# Altium footprint library PcbLib.PcbLib: 11 footprints
Each footprint in its own frame and in the unit in brackets; x right, y up, seen from the top. Pads: shape width x height; smd on the part's side, far side on the other; paste and mask are expansions set on the pad; w line width, h text height; cw(c..) or ccw(c..) is an arc to the next point about the centre after c.
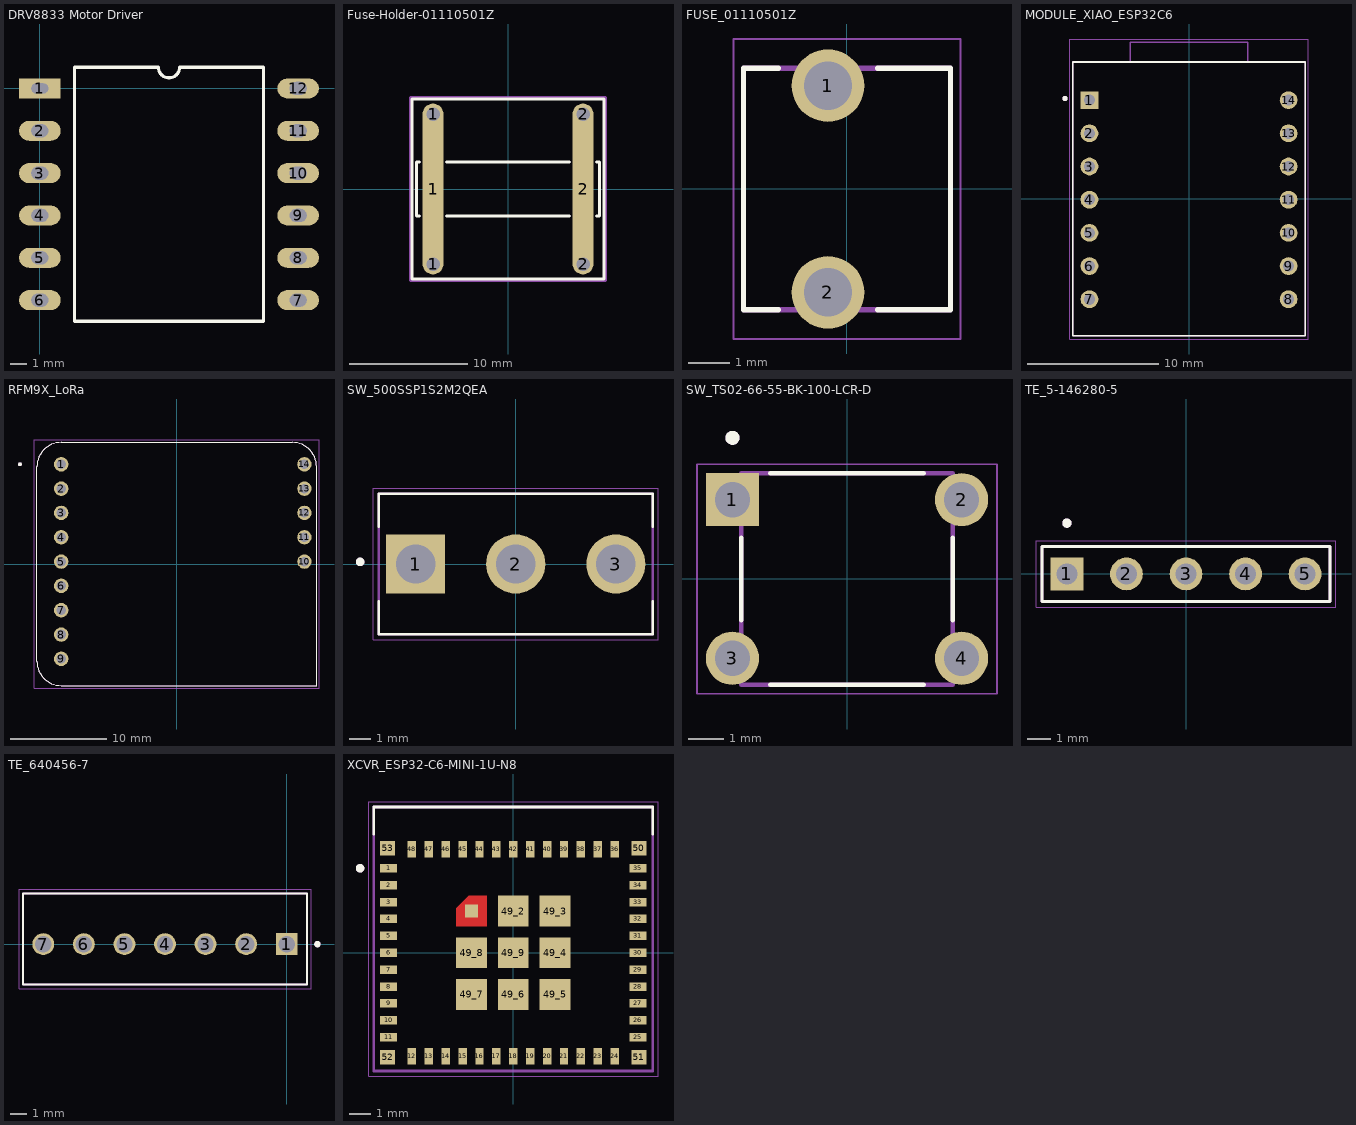
[diagram p0: the footprints below, top view; thin cyan lines are the x and y axes]

## DRV8833 Motor Driver [mm]
pads (12):
  rect 2.5x1.2 hole 0.6 slot 1.016 at 0 deg: 1(0,0)
  oval 2.5x1.2 hole 0.778 slot 1.016 at 0 deg: 2(0,-2.54) 3(0,-5.08) 4(0,-7.62) 5(0,-10.16) 6(0,-12.7) 7(15.5,-12.7) 8(15.5,-10.16) 9(15.5,-7.62) 10(15.5,-5.08) 11(15.5,-2.54) 12(15.5,0)
Top Overlay:
  lines w0.2: 2.085,-13.97 13.415,-13.97 13.415,1.27 8.385,1.27 cw(c7.75,1.27) 7.115,1.27 2.085,1.27 2.085,-13.97

## Fuse-Holder-01110501Z [mil]
pads (6):
  round 70 hole 45: 1(-250,-250) 1(-250,250) 2(250,-250) 2(250,250)
  rect 70x500 smd: 1(-250,0) 2(250,0)
Top Overlay:
  lines w10: -295,-90 -305,-90 -305,90 -295,90 ; -205,-90 205,-90 ; -205,90 205,90 ; 295,-90 305,-90 305,90 295,90 ; -320,-300 -320,300 320,300 320,-300 -320,-300
Mechanical 4:
  lines w10: -325,-305 -325,305 325,305 325,-305 -325,-305
Mechanical 6:
  text "'.Designator'" at -56.68,404.29 h39.37

## FUSE_01110501Z [mm]
height 7
pads (2):
  round 1.755 hole 1.17 mask+0.102: 1(-0.46,2.5) 2(-0.46,-2.5)
Top Overlay:
  lines w0.127: -1.657,-2.921 -2.5,-2.921 -2.5,2.921 -1.657,2.921 ; 0.737,-2.921 2.5,-2.921 2.5,2.921 0.737,2.921
Mechanical 13:
  lines w0.127: -2.5,-2.921 2.5,-2.921 2.5,2.921 -2.5,2.921 -2.5,-2.921
Mechanical 15:
  lines w0.05: -2.75,-3.628 2.75,-3.628 2.75,3.628 -2.75,3.628 -2.75,-3.628

## MODULE_XIAO_ESP32C6 [mm]
pads (14):
  rect 1.358x1.358 / inner round 1.358 / far side rect 1.358x1.358 hole 0.85 mask+0.102: 1(-7.62,7.556)
  round 1.358 hole 0.85 mask+0.102: 2(-7.62,5.016) 3(-7.62,2.476) 4(-7.62,-0.064) 5(-7.62,-2.603) 6(-7.62,-5.143) 7(-7.62,-7.683) 8(7.62,-7.683) 9(7.62,-5.143) 10(7.62,-2.603) 11(7.62,-0.064) 12(7.62,2.476) 13(7.62,5.016) 14(7.62,7.556)
Top Overlay:
  circle w0.2: c-9.5,7.683 r0.1
  lines w0.127: -8.89,-10.477 8.89,-10.477 8.89,10.477 -8.89,10.477 -8.89,-10.477
Mechanical 13:
  circle w0.2: c-9.5,7.683 r0.1
  lines w0.127: -4.5,10.477 -4.5,11.987 4.5,11.987 4.5,10.477 ; -4.5,10.477 4.5,10.477 ; -4.5,10.477 -8.89,10.477 -8.89,-10.477 8.89,-10.477 8.89,10.477 4.5,10.477
Mechanical 15:
  lines w0.05: -9.14,-10.727 9.14,-10.727 9.14,12.237 -9.14,12.237 -9.14,-10.727
3D body "step_temp.STEP": height 4.21, standoff 0, extent -8.89,-10.477 8.89,11.986

## RFM9X_LoRa [mm] "RFM9X_LoRa"
pads (14):
  round 1.508 hole 1: 1(-12.065,10.414) 2(-12.065,7.874) 3(-12.065,5.334) 4(-12.065,2.794) 5(-12.065,0.254) 6(-12.065,-2.286) 7(-12.065,-4.826) 8(-12.065,-7.366) 9(-12.065,-9.906) 10(13.335,0.254) 11(13.335,2.794) 12(13.335,5.334) 13(13.335,7.874) 14(13.335,10.414)
Top Overlay:
  circle w0.2: c-16.373,10.414 r0.1
  lines w0.127: -14.605,-10.16 ccw(c-12.065,-10.16) -12.065,-12.7 14.605,-12.7 14.605,10.16 ccw(c12.065,10.16) 12.065,12.7 -12.065,12.7 ccw(c-12.065,10.16) -14.605,10.16 -14.605,-10.16
Mechanical 13:
  circle w0.2: c-16.373,10.414 r0.1
  lines w0.127: -14.605,-10.16 ccw(c-12.065,-10.16) -12.065,-12.7 14.605,-12.7 14.605,10.16 ccw(c12.065,10.16) 12.065,12.7 -12.065,12.7 ccw(c-12.065,10.16) -14.605,10.16 -14.605,-10.16
Mechanical 15:
  lines w0.05: -14.855,-12.95 -14.855,12.95 14.855,12.95 14.855,-12.95 -14.855,-12.95
3D body "step_temp.STEP": height 3.37, standoff 0, extent -14.605,-12.7 14.605,12.7

## SW_500SSP1S2M2QEA [mm]
height 13.59
pads (3):
  rect 2.775x2.775 / inner round 2.775 / far side rect 2.775x2.775 hole 1.85 mask+0.102: 1(-4.7,0)
  round 2.775 hole 1.85 mask+0.102: 2(0,0) 3(4.7,0)
Top Overlay:
  circle w0.2: c-7.3,0.1 r0.1
  lines w0.127: -6.425,-1.75 -6.425,-3.3 6.425,-3.3 6.425,-1.75 ; -6.425,1.75 -6.425,3.3 6.425,3.3 6.425,1.75
Mechanical 13:
  circle w0.2: c-7.3,0.1 r0.1
  lines w0.127: -6.425,-3.3 -6.425,3.3 6.425,3.3 6.425,-3.3 -6.425,-3.3
Mechanical 15:
  lines w0.05: -6.675,-3.55 -6.675,3.55 6.675,3.55 6.675,-3.55 -6.675,-3.55

## SW_TS02-66-55-BK-100-LCR-D [mm]
pads (4):
  rect 1.508x1.508 / inner round 1.508 / far side rect 1.508x1.508 hole 1: 1(-3.25,2.25)
  round 1.508 hole 1: 2(3.25,2.25) 3(-3.25,-2.25) 4(3.25,-2.25)
Top Overlay:
  circle w0.2: c-3.25,4.004 r0.1
  lines w0.127: -3,-1.176 -3,1.176 ; -2.176,-3 2.176,-3 ; -2.176,3 2.176,3 ; 3,-1.176 3,1.176
Mechanical 13:
  circle w0.2: c-3.25,4.004 r0.1
  lines w0.127: -3,-3 -3,3 3,3 3,-3 -3,-3
Mechanical 15:
  lines w0.05: -4.254,-3.254 4.254,-3.254 4.254,3.254 -4.254,3.254 -4.254,-3.254
3D body "step_temp.STEP": height 5.5, standoff -3.5, extent -3.95,-3 3.95,3

## TE_5-146280-5 [mm]
pads (5):
  rect 1.398x1.398 / inner round 1.398 / far side rect 1.398x1.398 hole 0.89: 1(-5.08,0)
  round 1.398 hole 0.89: 2(-2.54,0) 3(0,0) 4(2.54,0) 5(5.08,0)
Top Overlay:
  circle w0.2: c-5.08,2.17 r0.1
  lines w0.127: -6.15,-1.17 6.15,-1.17 6.15,1.17 -6.15,1.17 -6.15,-1.17
Mechanical 13:
  circle w0.2: c-5.08,2.17 r0.1
  lines w0.127: -6.15,-1.17 6.15,-1.17 6.15,1.17 -6.15,1.17 -6.15,-1.17
Mechanical 15:
  lines w0.05: -6.4,-1.42 6.4,-1.42 6.4,1.42 -6.4,1.42 -6.4,-1.42
3D body "step_temp.STEP": height 5.33, standoff -5.84, extent -6.147,-1.168 6.147,1.168

## TE_640456-7 [mm]
pads (7):
  rect 1.37x1.37 / inner round 1.37 / far side rect 1.37x1.37 hole 1.02: 1(0,0)
  round 1.37 hole 1.02: 2(-2.54,0) 3(-5.08,0) 4(-7.62,0) 5(-10.16,0) 6(-12.7,0) 7(-15.24,0)
Top Overlay:
  circle w0.2: c1.92,0 r0.1
  lines w0.127: -16.51,-2.54 1.27,-2.54 1.27,3.18 -16.51,3.18 -16.51,-2.54
Mechanical 13:
  circle w0.2: c1.92,0 r0.1
  lines w0.127: -16.51,-2.54 -16.51,3.18 ; -16.51,-2.54 1.27,-2.54 ; -16.51,-2.54 -16.51,3.18 ; -16.51,3.18 1.27,3.18 ; -16.51,3.18 1.27,3.18 ; 1.27,-2.54 1.27,3.18 ; 1.27,-2.54 1.27,3.18
Mechanical 15:
  lines w0.05: -16.76,-2.79 1.52,-2.79 1.52,3.43 -16.76,3.43 -16.76,-2.79
3D body "step_temp.STEP": height 10.03, standoff -3.94, extent -16.51,-2.54 1.27,3.175

## XCVR_ESP32-C6-MINI-1U-N8 [mm]
height 2.55
pads (61):
  rect 0.8x0.4 smd: 1(-5.9,4) 2(-5.9,3.2) 3(-5.9,2.4) 4(-5.9,1.6) 5(-5.9,0.8) 6(-5.9,0) 7(-5.9,-0.8) 8(-5.9,-1.6) 9(-5.9,-2.4) 10(-5.9,-3.2) 11(-5.9,-4) 25(5.9,-4) 26(5.9,-3.2) 27(5.9,-2.4) 28(5.9,-1.6) 29(5.9,-0.8) 30(5.9,0) 31(5.9,0.8) 32(5.9,1.6) 33(5.9,2.4) 34(5.9,3.2) 35(5.9,4)
  rect 0.4x0.8 smd: 12(-4.8,-4.9) 13(-4,-4.9) 14(-3.2,-4.9) 15(-2.4,-4.9) 16(-1.6,-4.9) 17(-0.8,-4.9) 18(0,-4.9) 19(0.8,-4.9) 20(1.6,-4.9) 21(2.4,-4.9) 22(3.2,-4.9) 23(4,-4.9) 24(4.8,-4.9) 36(4.8,4.9) 37(4,4.9) 38(3.2,4.9) 39(2.4,4.9) 40(1.6,4.9) 41(0.8,4.9) 42(0,4.9) 43(-0.8,4.9) 44(-1.6,4.9) 45(-2.4,4.9) 46(-3.2,4.9) 47(-4,4.9) 48(-4.8,4.9)
  rect 0.6x0.6 smd paste-1 mask+0: 49_1(-1.975,1.975)
  rect 1.45x1.45 smd: 49_2(0,1.975) 49_3(1.975,1.975) 49_4(1.975,0) 49_5(1.975,-1.975) 49_6(0,-1.975) 49_7(-1.975,-1.975) 49_8(-1.975,0) 49_9(0,0)
  rect 0.7x0.7 smd: 50(5.95,4.95) 51(5.95,-4.95) 52(-5.95,-4.95) 53(-5.95,4.95)
Top Layer:
  region: -1.25,1.25 -2.7,1.25 -2.7,2.1 -2.1,2.7 -1.25,2.7
Top Overlay:
  circle w0.2: c-7.25,4 r0.1
  lines w0.127: -6.6,5.62 -6.6,6.9 6.6,6.9 6.6,5.62
Top Paste:
  region: -1.25,1.25 -2.7,1.25 -2.7,2.1 -2.1,2.7 -1.25,2.7
Top Solder:
  region: -1.15,1.15 -2.8,1.15 -2.8,2.14 -2.14,2.8 -1.15,2.8
Mechanical 13:
  circle w0.2: c-7.25,4 r0.1
  lines w0.127: -6.6,-5.6 -6.6,6.9 6.6,6.9 6.6,-5.6 -6.6,-5.6
Mechanical 15:
  lines w0.05: -6.85,-5.85 6.85,-5.85 6.85,7.15 -6.85,7.15 -6.85,-5.85
3D body "step_temp.STEP": height 2.55, standoff 0, extent -6.6,-6.25 6.6,6.25

## XIAO_ESP32_C6 [mm] "ESP32 on a board"
height 5